# EAGLE library part 146134-38 (library con-tyco-mod-II)
HEADER
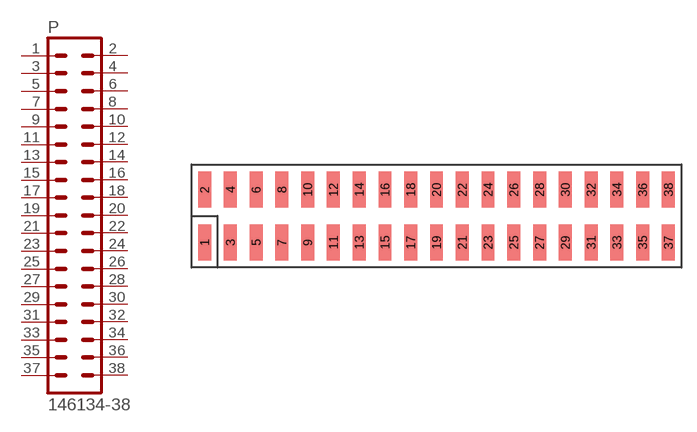
[diagram p16: symbol with the pads of 146134-38; footprint 146134-38]

Designator prefix P

## 146134-38  [146134-38]
1  1  pas
2  2  pas
3  3  pas
4  4  pas
5  5  pas
6  6  pas
7  7  pas
8  8  pas
9  9  pas
10  10  pas
11  11  pas
12  12  pas
13  13  pas
14  14  pas
15  15  pas
16  16  pas
17  17  pas
18  18  pas
19  19  pas
20  20  pas
21  21  pas
22  22  pas
23  23  pas
24  24  pas
25  25  pas
26  26  pas
27  27  pas
28  28  pas
29  29  pas
30  30  pas
31  31  pas
32  32  pas
33  33  pas
34  34  pas
35  35  pas
36  36  pas
37  37  pas
38  38  pas

## Footprint 146134-38 (pad centres in mm)
HEADER
smd 1.27 x 3.556: 1 -22.86,-2.603; 2 -22.86,2.603; 3 -20.32,-2.603; 4 -20.32,2.603; 5 -17.78,-2.603; 6 -17.78,2.603; 7 -15.24,-2.603; 8 -15.24,2.603; 9 -12.7,-2.603; 10 -12.7,2.603; 11 -10.16,-2.603; 12 -10.16,2.603; 13 -7.62,-2.603; 14 -7.62,2.603; 15 -5.08,-2.603; 16 -5.08,2.603; 17 -2.54,-2.603; 18 -2.54,2.603; 19 0,-2.603; 20 0,2.603; 21 2.54,-2.603; 22 2.54,2.603; 23 5.08,-2.603; 24 5.08,2.603; 25 7.62,-2.603; 26 7.62,2.603; 27 10.16,-2.603; 28 10.16,2.603; 29 12.7,-2.603; 30 12.7,2.603; 31 15.24,-2.603; 32 15.24,2.603; 33 17.78,-2.603; 34 17.78,2.603; 35 20.32,-2.603; 36 20.32,2.603; 37 22.86,-2.603; 38 22.86,2.603